# EAGLE library part 20021321-00016 (library all-connectors)
20021321-00016 Amphenol FCI Minitek127® Board to Board connectors, PCB mounted Receptacle, Vertical, Surface Mount, Double Row, 16 Positions, 1.27mm (0.05inch) pitch
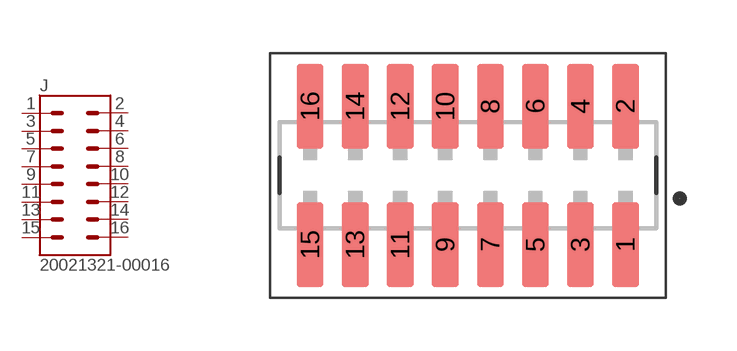
[diagram p4: symbol with the pads of FE08-2_SMD_1.27MM; footprint FE08-2_SMD_1.27MM]

Designator prefix J

## 20021321-00016  [FE08-2_SMD_1.27MM]
1  1  pas
2  2  pas
3  3  pas
4  4  pas
5  5  pas
6  6  pas
7  7  pas
8  8  pas
9  9  pas
10  10  pas
11  11  pas
12  12  pas
13  13  pas
14  14  pas
15  15  pas
16  16  pas

## Footprint FE08-2_SMD_1.27MM (pad centres in mm)
smd 0.76 x 2.4: 1 4.445,-1.95; 2 4.445,1.95; 3 3.175,-1.95; 4 3.175,1.95; 5 1.905,-1.95; 6 1.905,1.95; 7 0.635,-1.95; 8 0.635,1.95; 9 -0.635,-1.95; 10 -0.635,1.95; 11 -1.905,-1.95; 12 -1.905,1.95; 13 -3.175,-1.95; 14 -3.175,1.95; 15 -4.445,-1.95; 16 -4.445,1.95